# Altium schematic symbol library Schlib5.SchLib: 1 symbol
Pins are listed as number, name and electrical type; pins without a type are passive.

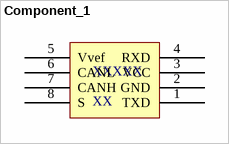
[diagram p0: symbol Component_1]

## Component_1
designator XXXXX, comment XX
pins: 1 TXD, 2 GND, 3 VCC, 4 RXD, 5 Vvef, 6 CANL, 7 CANH, 8 S